# EAGLE library part EDGE70 (library Custom)
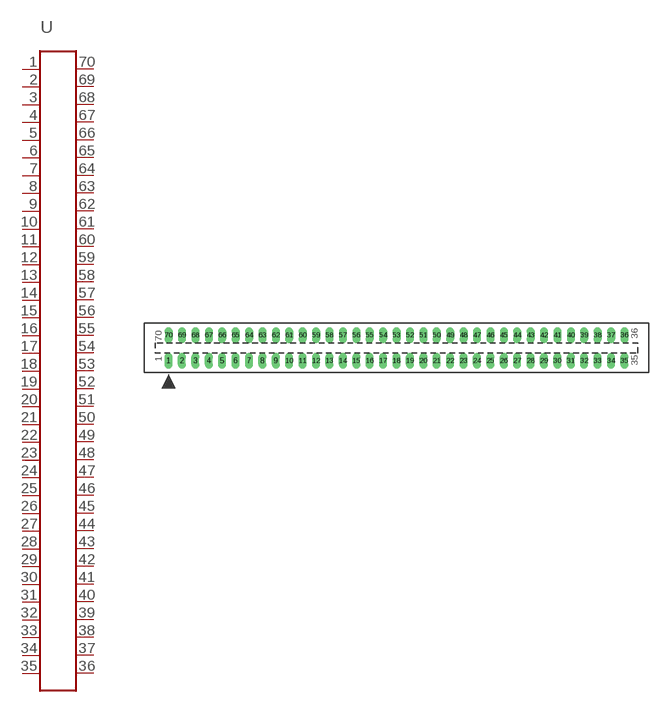
[diagram p8: symbol with the pads of EDGE70F; footprint EDGE70F]

Designator prefix -

## EDGE70M  [EDGE70F]
1  1
2  2
3  3
4  4
5  5
6  6
7  7
8  8
9  9
10  10
11  11
12  12
13  13
14  14
15  15
16  16
17  17
18  18
19  19
20  20
21  21
22  22
23  23
24  24
25  25
26  26
27  27
28  28
29  29
30  30
31  31
32  32
33  33
34  34
35  35
36  36
37  37
38  38
39  39
40  40
41  41
42  42
43  43
44  44
45  45
46  46
47  47
48  48
49  49
50  50
51  51
52  52
53  53
54  54
55  55
56  56
57  57
58  58
59  59
60  60
61  61
62  62
63  63
64  64
65  65
66  66
67  67
68  68
69  69
70  70

## Footprint EDGE70F (pad centres in mm)
drill 1.016 long: 1 -43.18,-2.426; 2 -40.64,-2.426; 3 -38.1,-2.426; 4 -35.56,-2.426; 5 -33.02,-2.426; 6 -30.48,-2.426; 7 -27.94,-2.426; 8 -25.4,-2.426; 9 -22.86,-2.426; 10 -20.32,-2.426; 11 -17.78,-2.426; 12 -15.24,-2.426; 13 -12.7,-2.426; 14 -10.16,-2.426; 15 -7.62,-2.426; 16 -5.08,-2.426; 17 -2.54,-2.426; 18 0,-2.426; 19 2.54,-2.426; 20 5.08,-2.426; 21 7.62,-2.426; 22 10.16,-2.426; 23 12.7,-2.426; 24 15.24,-2.426; 25 17.78,-2.426; 26 20.32,-2.426; 27 22.86,-2.426; 28 25.4,-2.426; 29 27.94,-2.426; 30 30.48,-2.426; 31 33.02,-2.426; 32 35.56,-2.426; 33 38.1,-2.426; 34 40.64,-2.426; 35 43.18,-2.426; 36 43.18,2.426; 37 40.64,2.426; 38 38.1,2.426; 39 35.56,2.426; 40 33.02,2.426; 41 30.48,2.426; 42 27.94,2.426; 43 25.4,2.426; 44 22.86,2.426; 45 20.32,2.426; 46 17.78,2.426; 47 15.24,2.426; 48 12.7,2.426; 49 10.16,2.426; 50 7.62,2.426; 51 5.08,2.426; 52 2.54,2.426; 53 0,2.426; 54 -2.54,2.426; 55 -5.08,2.426; 56 -7.62,2.426; 57 -10.16,2.426; 58 -12.7,2.426; 59 -15.24,2.426; 60 -17.78,2.426; 61 -20.32,2.426; 62 -22.86,2.426; 63 -25.4,2.426; 64 -27.94,2.426; 65 -30.48,2.426; 66 -33.02,2.426; 67 -35.56,2.426; 68 -38.1,2.426; 69 -40.64,2.426; 70 -43.18,2.426